# Altium integrated library ON Semi Power Mgt Charge Pump.IntLib: 4 symbols
Pins are listed as number, name and electrical type; pins without a type are passive.

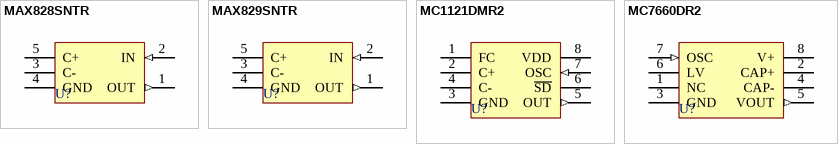
[diagram p0: symbols MAX828SNTR to MC7660DR2]

## MAX828SNTR
designator U?
Switched Capacitor Voltage Converter; Published: 15-Apr-2002; DatasheetVersion: Feb-2000; PackageVersion: Feb-2000; PackageReference: SOT-23-5; Publisher: Altium Limited; PackageDescription: SOT-23/SC-74A; 5 Leads; Body 3.1 x 3.1 mm, inc. leads (LxW max); ComponentLink1Description: Manufacturer Link; ComponentLink1URL: http://www.onsemi.com/site/products/taxonomy/0,4438,503,00.html
footprint SOT-23-5 (SOT-23/SC-74A; 5 Leads; Body 3.1 x 3.1 mm, inc. leads (LxW max))
pins: 1 OUT (out), 2 IN (in), 3 C-, 4 GND (power), 5 C+

## MAX829SNTR
designator U?
Switched Capacitor Voltage Converter; Published: 15-Apr-2002; DatasheetVersion: Feb-2000; PackageVersion: Feb-2000; PackageReference: SOT-23-5; Publisher: Altium Limited; PackageDescription: SOT-23/SC-74A; 5 Leads; Body 3.1 x 3.1 mm, inc. leads (LxW max); ComponentLink1Description: Manufacturer Link; ComponentLink1URL: http://www.onsemi.com/site/products/taxonomy/0,4438,503,00.html
footprint SOT-23-5 (SOT-23/SC-74A; 5 Leads; Body 3.1 x 3.1 mm, inc. leads (LxW max))
pins: 1 OUT (out), 2 IN (in), 3 C-, 4 GND (power), 5 C+

## MC1121DMR2
designator U?
100mA Charge Pump Voltage Converter with Shutdown; Note: As S\D\ may be left open, electrical type assigned as "Passive"; Published: 15-Apr-2002; DatasheetVersion: Feb-2000; PackageVersion: Feb-2000; PackageReference: Micro8; Publisher: Altium Limited; PackageDescription: Shrink Small Outline; 8 Leads; Body Width 3 mm; Pitch 0.65 mm; ComponentLink1Description: Manufacturer Link; ComponentLink1URL: http://www.onsemi.com/site/products/taxonomy/0,4438,503,00.html
footprint Micro8 (Shrink Small Outline; 8 Leads; Body Width 3 mm; Pitch 0.65 mm)
pins: 1 FC, 2 C+, 3 GND (power), 4 C-, 5 OUT (out), 6 ~{SD}, 7 OSC (in), 8 VDD (power)

## MC7660DR2
designator U?
Charge Pump DC-to-DC Voltage Converter; Published: 15-Apr-2002; LatestRevisionDate: 13-Apr-2006; LatestRevisionNote: IPC-7351 Footprint Added.; DatasheetVersion: 1999; PackageVersion: 1998; PackageReference: 751-05; Publisher: Altium Limited; PackageDescription: 8-Pin Small Outline Integrated Circuit 1.27 mm Pitch; Code_JEDEC: MS-012-AA; Code_IPC: SOIC127P600-8; ComponentLink1Description: Manufacturer Link; ComponentLink1URL: http://www.onsemi.com/site/products/taxonomy/0,4438,503,00.html
footprint 751-05_N (SOIC, 8-Leads, Body 4.9x3.9mm, Pitch 1.27mm, IPC Medium Density)
footprint 751-05_L (SOIC, 8-Leads, Body 4.9x3.9mm, Pitch 1.27mm, IPC High Density)
footprint 751-05_M (SOIC, 8-Leads, Body 4.9x3.9mm, Pitch 1.27mm, IPC Low Density)
pins: 1 NC, 2 CAP+, 3 GND (power), 4 CAP-, 5 VOUT (out), 6 LV, 7 OSC (in), 8 V+ (power)